# EAGLE library part MAX7300 (library DMFlib)
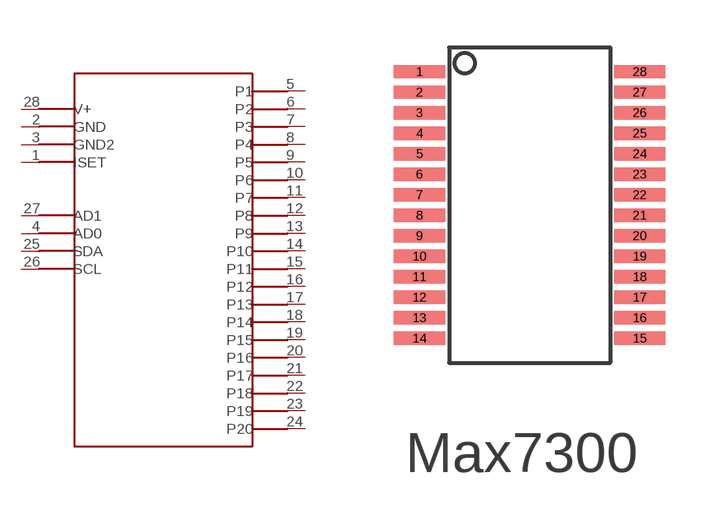
[diagram p1: symbol with the pads of MAX7300; footprint MAX7300]

Designator prefix MX

## MAX7300  [MAX7300]
1  ISET
2  GND
3  GND2
4  AD0
5  P1
6  P2
7  P3
8  P4
9  P5
10  P6
11  P7
12  P8
13  P9
14  P10
15  P11
16  P12
17  P13
18  P14
19  P15
20  P16
21  P17
22  P18
23  P19
24  P20
25  SDA
26  SCL
27  AD1
28  V+

## Footprint MAX7300 (pad centres in mm)
smd 1.62 x 0.42: 1 -6.04,9.225; 2 -6.04,8.575; 3 -6.04,7.925; 4 -6.04,7.275; 5 -6.04,6.625; 6 -6.04,5.975; 7 -6.04,5.325; 8 -6.04,4.675; 9 -6.04,4.025; 10 -6.04,3.375; 11 -6.04,2.725; 12 -6.04,2.075; 13 -6.04,1.425; 14 -6.04,0.775; 15 0.937,0.775; 16 0.937,1.425; 17 0.937,2.075; 18 0.937,2.725; 19 0.937,3.375; 20 0.937,4.025; 21 0.937,4.675; 22 0.937,5.325; 23 0.937,5.975; 24 0.937,6.625; 25 0.937,7.275; 26 0.937,7.925; 27 0.937,8.575; 28 0.937,9.225